# Altium footprint library Flange Mount with Rectangular Base.PcbLib: 14 footprints
Each footprint in its own frame and in the unit in brackets; x right, y up, seen from the top. Pads: shape width x height; smd on the part's side, far side on the other; paste and mask are expansions set on the pad; w line width, h text height; cw(c..) or ccw(c..) is an arc to the next point about the centre after c.
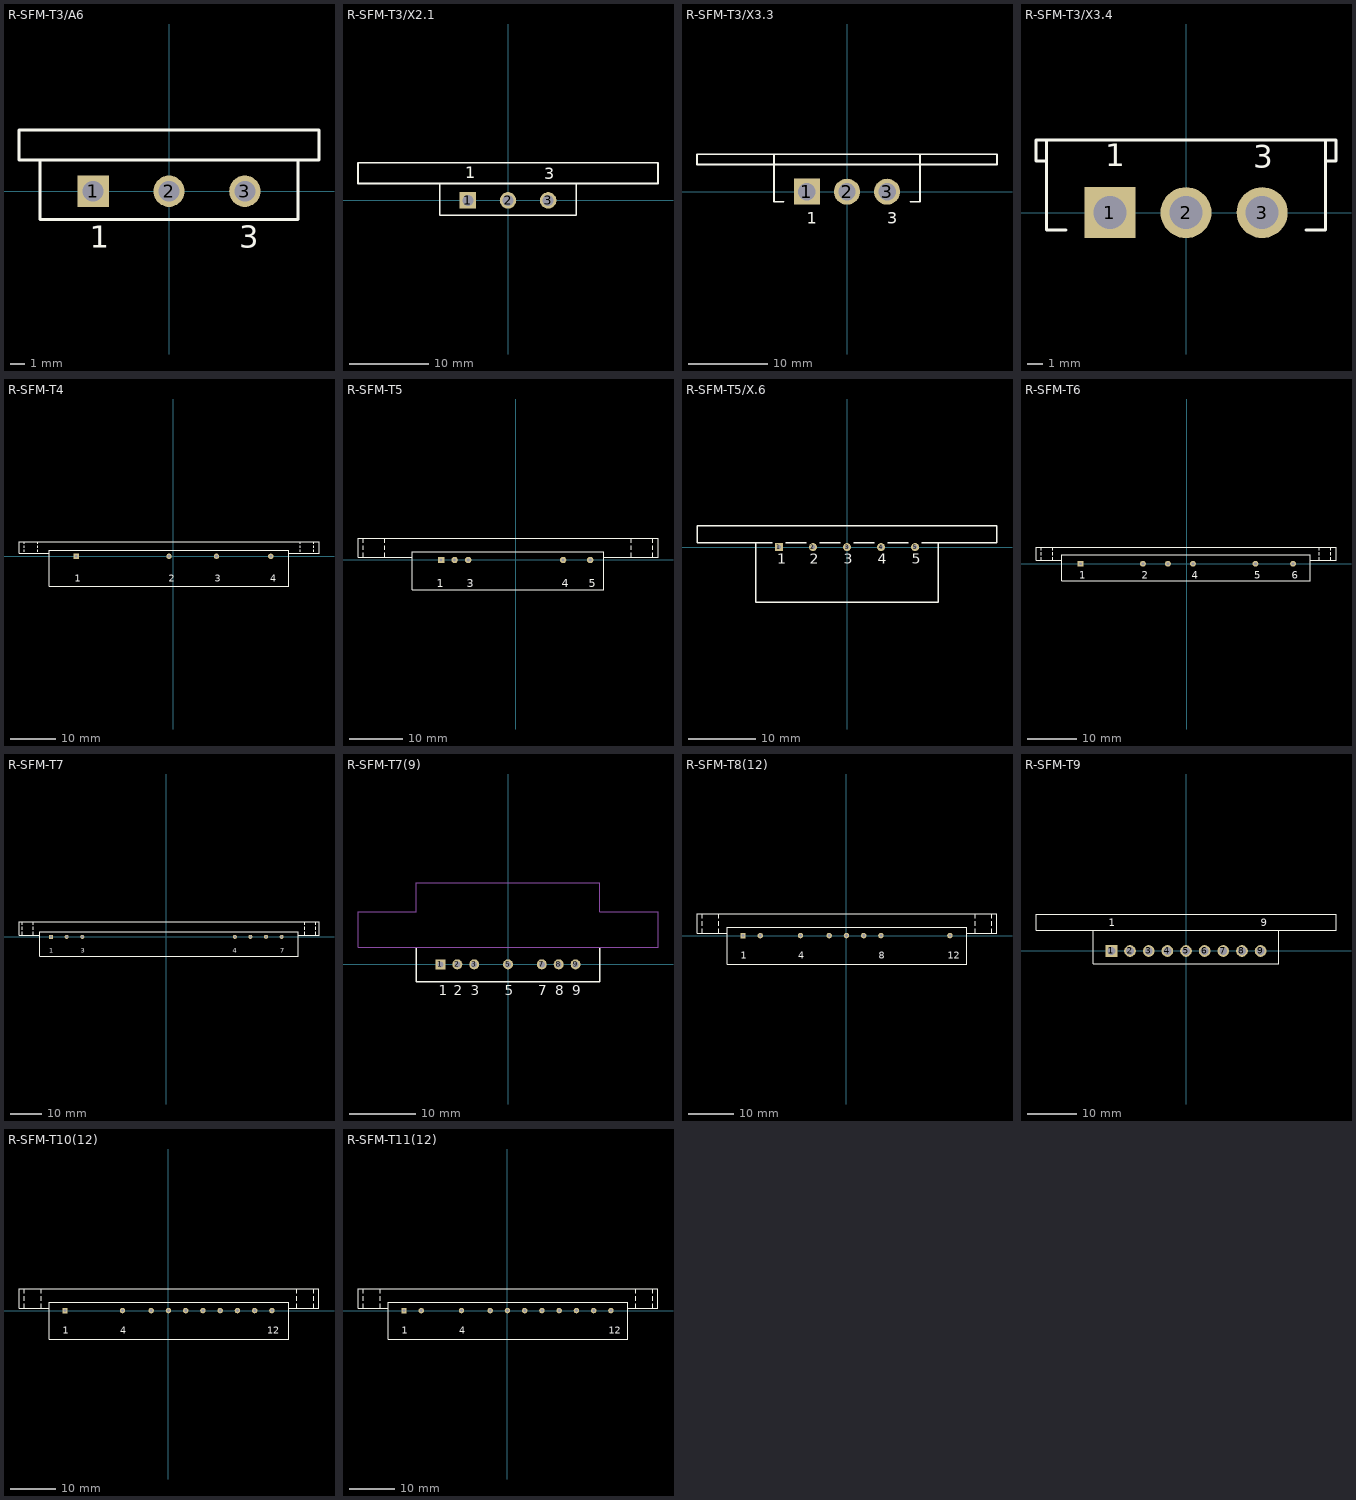
[diagram p0: the footprints below, top view; thin cyan lines are the x and y axes]

## R-SFM-T3/A6 [mm] "Rectangular Flange Mount, Thru-Hole; 3 Leads; Pitch 5.08 mm"
height 8.9
pads (3):
  rect 2.1x2.1 hole 1.4: 1(-5.08,0)
  round 2.1 hole 1.4: 2(0,0) 3(5.08,0)
Top Overlay:
  lines w0.2: -8.65,2.1 -8.65,-1.9 8.65,-1.9 8.65,2.1 ; -10.05,2.1 10.05,2.1 10.05,4.1 -10.05,4.1 -10.05,2.1
  text "1" at -5.3,-3.8 h1.5
  text "3" at 4.7,-3.8 h1.5

## R-SFM-T3/X2.1 [mm] "Rectangular Flange Mount, Thru-Hole; 3 Leads; Pitch 5.08 mm"
height 8.9
pads (3):
  rect 2.1x2.1 hole 1.4: 1(-5.08,0)
  round 2.1 hole 1.4: 2(0,0) 3(5.08,0)
Top Overlay:
  lines w0.2: -8.65,2.15 -8.65,-1.85 8.65,-1.85 8.65,2.15 ; -19,2.15 -19,4.75 19,4.75 19,2.15 -19,2.15
  text "1" at -5.4,2.8 h1.5
  text "3" at 4.6,2.7 h1.5

## R-SFM-T3/X3.3 [mm] "Rectangular Flange Mount, Thru-Hole; 3 Leads; Pitch 5.08 mm"
height 10.8
pads (3):
  rect 3.3x3.3 hole 2.2: 1(-5.08,0)
  round 3.3 hole 2.2: 2(0,0) 3(5.08,0)
Top Overlay:
  lines w0.2: -9.25,4.75 -9.25,-1.25 -8,-1.25 ; 8,-1.25 9.25,-1.25 9.25,4.75 ; -19,3.45 -19,4.75 19,4.75 19,3.45 -19,3.45
  text "1" at -5.08,-4.064 h1.5
  text "3" at 5.08,-4.064 h1.5

## R-SFM-T3/X3.4 [mm] "Rectangular Flange Mount, Thru-Hole; 3 Leads; Pitch 5.08 mm"
height 10.8
pads (3):
  rect 3.4x3.4 hole 2.2: 1(-5.08,0)
  round 3.4 hole 2.2: 2(0,0) 3(5.08,0)
Top Overlay:
  lines w0.2: -9.3,3.45 -10,3.45 -10,4.85 10,4.85 10,3.45 9.3,3.45 ; -9.3,4.85 -9.3,-1.15 -8,-1.15 ; 8,-1.15 9.3,-1.15 9.3,4.85
  text "3" at 4.5,3 h1.5
  text "1" at -5.4,3.1 h1.5

## R-SFM-T4 [mm] "Rectangular Flange Mount, Thru-Hole; 4 Leads; Pitch 12 mm"
height 23.2
pads (4):
  rect 1.2x1.2 hole 0.6: 1(-21.5,0)
  round 1.2 hole 0.6: 2(-0.99,0) 3(9.5,0) 4(21.5,0)
Top Overlay:
  lines w0.2: -33.01,0.964 -33.01,1.464 ; -33.01,1.864 -33.01,2.364 ; -33.01,2.75 -33.01,3.25 ; -30.01,0.964 -30.01,1.464 ; -30.01,1.864 -30.01,2.364 ; -30.01,2.75 -30.01,3.25 ; -27.44,0.65 -34.14,0.65 -34.14,3.25 32.16,3.25 32.16,0.65 25.46,0.65 ; 28.03,0.964 28.03,1.464 ; 28.03,1.864 28.03,2.364 ; 28.03,2.75 28.03,3.25 ; 31.03,0.964 31.03,1.464 ; 31.03,1.864 31.03,2.364 ; 31.03,2.75 31.03,3.25 ; -27.44,-6.65 -27.44,1.35 25.46,1.35 25.46,-6.65 -27.44,-6.65
  text "1" at -21.844,-5.588 h1.5
  text "2" at -1.016,-5.588 h1.5
  text "3" at 9.144,-5.588 h1.5
  text "4" at 21.336,-5.588 h1.5

## R-SFM-T5 [mm] "Rectangular Flange Mount, Thru-Hole; 5 Leads; Pitch 2.54 mm"
height 19.6
pads (5):
  rect 1.2x1.2 hole 0.6: 1(-13.97,0)
  round 1.2 hole 0.6: 2(-11.43,0) 3(-8.89,0) 4(8.89,0) 5(13.97,0)
Top Overlay:
  lines w0.2: -28.53,0.55 -28.53,1.35 ; -28.53,1.9 -28.53,2.7 ; -28.53,3.25 -28.53,4.05 ; -24.53,0.55 -24.53,1.35 ; -24.53,1.9 -24.53,2.7 ; -24.53,3.25 -24.53,4.05 ; -19.38,0.55 -29.53,0.55 -29.53,4.05 26.67,4.05 26.67,0.55 16.52,0.55 ; 21.67,0.55 21.67,1.35 ; 21.67,1.9 21.67,2.7 ; 21.67,3.25 21.67,4.05 ; 25.67,0.55 25.67,1.35 ; 25.67,1.9 25.67,2.7 ; 25.67,3.25 25.67,4.05 ; -19.38,-5.55 16.52,-5.55 16.52,1.55 -19.38,1.55 -19.38,-5.55
  text "1" at -14.732,-5.08 h1.5
  text "3" at -9.144,-5.08 h1.5
  text "4" at 8.636,-5.08 h1.5
  text "5" at 13.716,-5.08 h1.5

## R-SFM-T5/X.6 [mm] "Rectangular Flange Mount, Thru-Hole; 5 Leads; Pitch 5.08 mm"
height 14.5
pads (5):
  rect 1.2x1.2 hole 0.6: 1(-10.16,0)
  round 1.2 hole 0.6: 2(-5.08,0) 3(0,0) 4(5.08,0) 5(10.16,0)
Top Overlay:
  lines w0.2: -13.65,0.678 -13.65,-8.222 13.65,-8.222 13.65,0.678 ; -11.16,0.678 -22.4,0.678 -22.4,3.178 22.4,3.178 22.4,0.678 11.16,0.678 ; -9.16,0.678 -6.08,0.678 ; -4.08,0.678 -1,0.678 ; 1,0.678 4.08,0.678 ; 6.08,0.678 9.16,0.678
  text "4" at 4.58,-2.475 h1.5
  text "3" at -0.5,-2.475 h1.5
  text "2" at -5.58,-2.475 h1.5
  text "1" at -10.41,-2.475 h1.5
  text "5" at 9.66,-2.475 h1.5

## R-SFM-T6 [mm] "Rectangular Flange Mount, Thru-Hole; 6 Leads; Pitch 5.08 mm"
height 14.1
pads (6):
  rect 1.2x1.2 hole 0.6: 1(-21.59,0)
  round 1.2 hole 0.6: 2(-8.89,0) 3(-3.81,0) 4(1.27,0) 5(13.97,0) 6(21.59,0)
Top Overlay:
  lines w0.2: -29.55,0.75 -29.55,1.35 ; -29.55,1.75 -29.55,2.35 ; -29.55,2.75 -29.55,3.35 ; -27.15,0.75 -27.15,1.35 ; -27.15,1.75 -27.15,2.35 ; -27.15,2.75 -27.15,3.35 ; -25.385,0.75 -30.585,0.75 -30.585,3.35 30.315,3.35 30.315,0.75 25.115,0.75 ; 26.88,0.75 26.88,1.35 ; 26.88,1.75 26.88,2.35 ; 26.88,2.75 26.88,3.35 ; 29.28,0.75 29.28,1.35 ; 29.28,1.75 29.28,2.35 ; 29.28,2.75 29.28,3.35 ; -25.385,-3.45 25.115,-3.45 25.115,1.85 -25.385,1.85 -25.385,-3.45
  text "1" at -21.844,-3.048 h1.5
  text "2" at -9.144,-3.048 h1.5
  text "4" at 1.016,-3.048 h1.5
  text "5" at 13.716,-3.048 h1.5
  text "6" at 21.336,-3.048 h1.5

## R-SFM-T7 [mm] "Rectangular Flange Mount, Thru-Hole; 7 Leads; Pitch 5 mm"
height 25.7
pads (7):
  rect 1.3x1.3 hole 0.7: 1(-36.99,0)
  round 1.3 hole 0.7: 2(-31.99,0) 3(-26.99,0) 4(21.99,0) 5(26.99,0) 6(31.99,0) 7(36.99,0)
Top Overlay:
  lines w0.2: -46.3,0.65 -46.3,1.65 ; -46.3,2.25 -46.3,3.25 ; -46.3,3.85 -46.3,4.85 ; -42.78,0.65 -42.78,1.65 ; -42.78,2.25 -42.78,3.25 ; -42.78,3.85 -42.78,4.85 ; -40.705,0.55 -47.3,0.55 -47.3,4.85 49,4.85 49,0.55 42.395,0.55 ; 44.48,0.65 44.48,1.65 ; 44.48,2.25 44.48,3.25 ; 44.48,3.85 44.48,4.85 ; 48,0.65 48,1.65 ; 48,2.25 48,3.25 ; 48,3.85 48,4.85 ; -40.705,-6.25 -40.705,1.674 42.395,1.674 42.395,-6.25 -40.705,-6.25
  text "7" at 36.576,-5.08 h1.5
  text "4" at 21.336,-5.08 h1.5
  text "3" at -27.432,-5.08 h1.5
  text "1" at -37.592,-5.08 h1.5

## R-SFM-T7(9) [mm] "Rectangular Flange Mount, Thru-Hole; 9 Leads (2 Absent); Pitch 2.54 mm"
height 0.5
pads (7):
  rect 1.5x1.5 hole 0.9: 1(-10.16,0)
  round 1.5 hole 0.9: 2(-7.62,0) 3(-5.08,0) 5(0,0) 7(5.08,0) 8(7.62,0) 9(10.16,0)
Top Overlay:
  lines w0.2: -13.8,2.45 -13.8,-2.65 13.8,-2.65 13.8,2.45
  text "7" at 4.58,-4.625 h1.5
  text "3" at -5.58,-4.625 h1.5
  text "2" at -8.12,-4.625 h1.5
  text "1" at -10.41,-4.625 h1.5
  text "5" at -0.5,-4.625 h1.5
  text "8" at 7.12,-4.625 h1.5
  text "9" at 9.66,-4.625 h1.5
Mechanical 1:
  lines w0.1: -22.55,2.54 -22.55,7.935 -13.8,7.935 -13.8,12.25 13.8,12.25 13.8,7.935 22.55,7.935 22.55,2.54 ; -22.55,2.55 22.55,2.55

## R-SFM-T8(12) [mm] "Rectangular Flange Mount, Thru-Hole; 12 Leads (4 Absent); Pitch 3.81 mm"
height 22.3
pads (8):
  rect 1.2x1.2 hole 0.6: 1(-22.86,0)
  round 1.2 hole 0.6: 2(-19.05,0) 4(-10.16,0) 5(-3.81,0) 6(0,0) 7(3.81,0) 8(7.62,0) 12(22.86,0)
Top Overlay:
  lines w0.2: -31.88,0.55 -31.88,1.55 ; -31.88,2.2 -31.88,3.2 ; -31.88,3.85 -31.88,4.85 ; -28.18,0.55 -28.18,1.55 ; -28.18,2.2 -28.18,3.2 ; -28.18,3.85 -28.18,4.85 ; -26.38,0.55 -33.03,0.55 -33.03,4.85 33.27,4.85 33.27,0.55 26.62,0.55 ; 28.42,0.55 28.42,1.55 ; 28.42,2.2 28.42,3.2 ; 28.42,3.85 28.42,4.85 ; 32.12,0.55 32.12,1.55 ; 32.12,2.2 32.12,3.2 ; 32.12,3.85 32.12,4.85 ; -26.38,-6.35 -26.38,1.85 26.62,1.85 26.62,-6.35 -26.38,-6.35
  text "1" at -23.368,-5.08 h1.5
  text "8" at 7.112,-5.08 h1.5
  text "12" at 22.352,-5.08 h1.5
  text "4" at -10.668,-5.08 h1.5

## R-SFM-T9 [mm] "Rectangular Flange Mount, Thru-Hole; 9 Leads; Pitch 3.81 mm"
height 25.7
pads (9):
  rect 2.4x2.4 hole 1.6: 1(-15.24,0)
  round 2.4 hole 1.6: 2(-11.43,0) 3(-7.62,0) 4(-3.81,0) 5(0,0) 6(3.81,0) 7(7.62,0) 8(11.43,0) 9(15.24,0)
Top Overlay:
  lines w0.2: -18.95,4.25 -18.95,-2.65 18.95,-2.65 18.95,4.25 ; -30.65,4.25 -30.65,7.55 30.65,7.55 30.65,4.25 -30.65,4.25
  text "1" at -15.748,5.08 h1.5
  text "9" at 15.24,5.08 h1.5

## R-SFM-T10(12) [mm] "Rectangular Flange Mount, Thru-Hole; 12 Leads (2 Absent); Pitch 3.81 mm"
height 22.3
pads (10):
  rect 1.2x1.2 hole 0.6: 1(-22.86,0)
  round 1.2 hole 0.6: 4(-10.16,0) 5(-3.81,0) 6(0,0) 7(3.81,0) 8(7.62,0) 9(11.43,0) 10(15.24,0) 11(19.05,0) 12(22.86,0)
Top Overlay:
  lines w0.2: -31.88,0.55 -31.88,1.55 ; -31.88,2.2 -31.88,3.2 ; -31.88,3.85 -31.88,4.85 ; -28.13,0.55 -28.13,1.55 ; -28.13,2.2 -28.13,3.2 ; -28.13,3.85 -28.13,4.85 ; -26.38,0.55 -33.03,0.55 -33.03,4.85 33.27,4.85 33.27,0.55 26.62,0.55 ; 28.37,0.55 28.37,1.55 ; 28.37,2.2 28.37,3.2 ; 28.37,3.85 28.37,4.85 ; 32.12,0.55 32.12,1.55 ; 32.12,2.2 32.12,3.2 ; 32.12,3.85 32.12,4.85 ; -26.38,-6.35 -26.38,1.85 26.62,1.85 26.62,-6.35 -26.38,-6.35
  text "12" at 21.844,-5.08 h1.5
  text "4" at -10.668,-5.08 h1.5
  text "1" at -23.368,-5.08 h1.5

## R-SFM-T11(12) [mm] "Rectangular Flange Mount, Thru-Hole; 12 Leads (1 Absent); Pitch 3.81 mm"
height 22.3
pads (11):
  rect 1.2x1.2 hole 0.6: 1(-22.86,0)
  round 1.2 hole 0.6: 2(-19.05,0) 4(-10.16,0) 5(-3.81,0) 6(0,0) 7(3.81,0) 8(7.62,0) 9(11.43,0) 10(15.24,0) 11(19.05,0) 12(22.86,0)
Top Overlay:
  lines w0.2: -31.88,0.55 -31.88,1.55 ; -31.88,2.2 -31.88,3.2 ; -31.88,3.85 -31.88,4.85 ; -28.13,0.55 -28.13,1.55 ; -28.13,2.2 -28.13,3.2 ; -28.13,3.85 -28.13,4.85 ; -26.38,0.55 -33.03,0.55 -33.03,4.85 33.27,4.85 33.27,0.55 26.62,0.55 ; 28.37,0.55 28.37,1.55 ; 28.37,2.2 28.37,3.2 ; 28.37,3.85 28.37,4.85 ; 32.12,0.55 32.12,1.55 ; 32.12,2.2 32.12,3.2 ; 32.12,3.85 32.12,4.85 ; -26.38,-6.35 -26.38,1.85 26.62,1.85 26.62,-6.35 -26.38,-6.35
  text "12" at 22.352,-5.08 h1.5
  text "4" at -10.668,-5.08 h1.5
  text "1" at -23.368,-5.08 h1.5